# EAGLE library part ADS1013IDGST (library iddproject)
ADS1013 IDGST analog-digital converter http://www.ti.com/lit/ds/symlink/ads1013.pdf http://www.digikey.com/product-detail/en/ADS1013IDGST/296-25225-1-ND/2174995
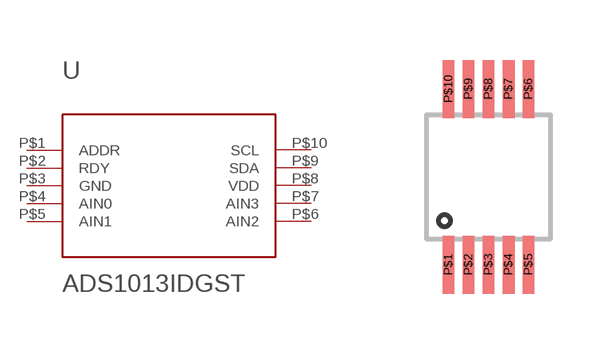
[diagram p0: symbol with the pads of ADS1013; footprint ADS1013]

Designator prefix U

## ADS1013IDGST  [ADS1013]
P$1  ADDR
P$2  RDY  nc
P$3  GND  pwr
P$4  AIN0
P$5  AIN1
P$6  AIN2  nc
P$7  AIN3  nc
P$8  VDD  pwr
P$9  SDA
P$10  SCL

## Footprint ADS1013 (pad centres in mm)
smd 0.3 x 1.45: P$1 -1,-2.2; P$2 -0.5,-2.2; P$3 0,-2.2; P$4 0.5,-2.2; P$5 1,-2.2; P$6 1,2.2; P$7 0.5,2.2; P$8 0,2.2; P$9 -0.5,2.2; P$10 -1,2.2